# EAGLE library part FAN7380MXCT-ND (library RoboJackets-PowerICs)
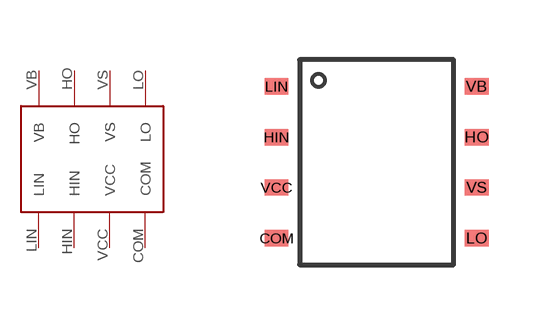
[diagram p1: symbol with the pads of FAN7380MXCT-ND; footprint FAN7380MXCT-ND]

Designator prefix U

## FAN7380MXCT-ND  [FAN7380MXCT-ND]
COM  COM
HIN  HIN
HO  HO
LIN  LIN
LO  LO
VB  VB
VCC  VCC
VS  VS

## Footprint FAN7380MXCT-ND (pad centres in mm)
smd 0.6 x 0.41: COM -2.5,-1.9; HIN -2.5,0.63; HO 2.5,0.63; LIN -2.5,1.9; LO 2.5,-1.9; VB 2.5,1.9; VCC -2.5,-0.63; VS 2.5,-0.63